# Altium schematic symbol library Footswitch_Jumper.SchLib: 1 symbol
Pins are listed as number, name and electrical type; pins without a type are passive.

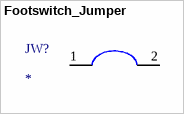
[diagram p0: symbol Footswitch_Jumper]

## Footswitch_Jumper
designator JW?
footprint Footswitch_Jumper
pins: 1, 2